# EAGLE library part EX-XOR (library p.peter-logic)
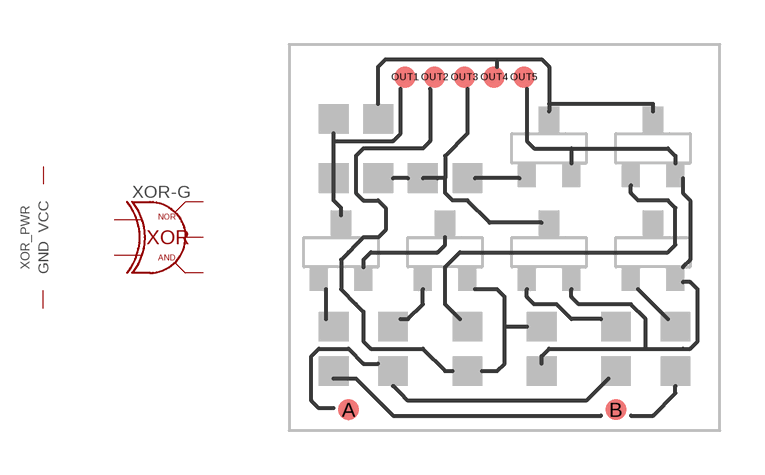
[diagram p0: symbol with the pads of XOR-2-EX2; footprint XOR-2-EX2]

Designator prefix XOR; gates _PWR=GENERIC-PWR -G=EX2-XOR-2

## EX-XOR  [XOR-2-EX2]
A  -G:A
B  -G:B
OUT1  _PWR:VCC
OUT2  -G:AND
OUT3  -G:NOR
OUT4  -G:OUT
OUT5  _PWR:GND

## Footprint XOR-2-EX2 (pad centres in mm)
smd 0.7 x 0.7: A -5.25,-5.8; B 3.75,-5.8; OUT1 -3.35,5.4; OUT2 -2.35,5.4; OUT3 -1.35,5.4; OUT4 -0.35,5.4; OUT5 0.65,5.4